# Altium footprint library JST_B10B-PH-K-S.PcbLib: 1 footprints
Each footprint in its own frame and in the unit in brackets; x right, y up, seen from the top. Pads: shape width x height; smd on the part's side, far side on the other; paste and mask are expansions set on the pad; w line width, h text height; cw(c..) or ccw(c..) is an arc to the next point about the centre after c.
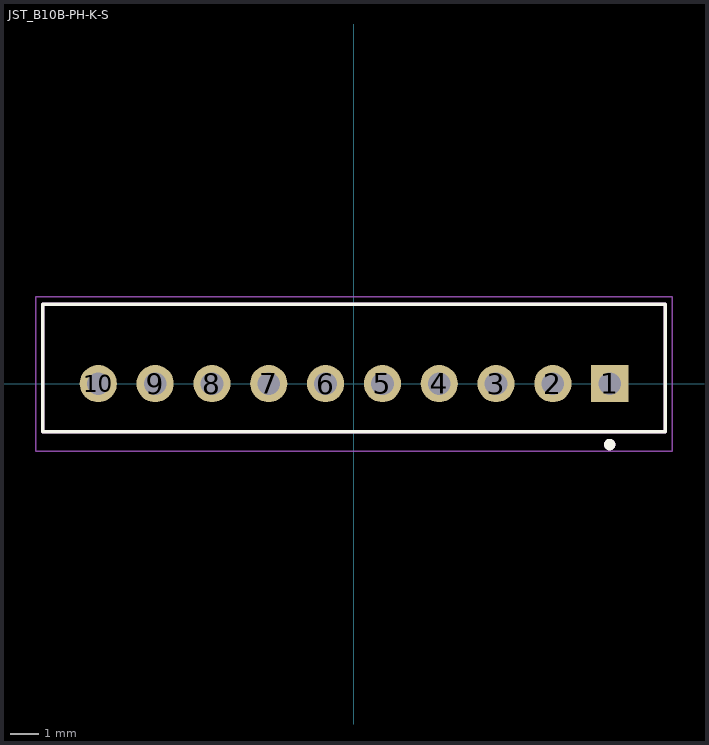
[diagram p0: the footprint, top view; thin cyan lines are the x and y axes]

## JST_B10B-PH-K-S [mm]
height 6
pads (10):
  rect 1.308x1.308 hole 0.8: 1(9,0)
  round 1.308 hole 0.8: 2(7,0) 3(5,0) 4(3,0) 5(1,0) 6(-1,0) 7(-3,0) 8(-5,0) 9(-7,0) 10(-9,0)
Top Overlay:
  circle w0.2: c9,-2.146 r0.1
  lines w0.127: -10.95,-1.7 10.95,-1.7 10.95,2.8 -10.95,2.8 -10.95,-1.7
Mechanical 13:
  circle w0.2: c9,-2.146 r0.1
  lines w0.127: -10.95,-1.7 -10.95,2.8 10.95,2.8 10.95,-1.7 -10.95,-1.7
Mechanical 15:
  lines w0.05: -11.2,-2.371 -11.2,3.05 11.2,3.05 11.2,-2.371 -11.2,-2.371
3D body: height 6, standoff 0, extent -10.95,-1.7 10.95,2.8